# Altium schematic symbol library ITOG.schlib: 42 symbols
Pins are listed as number, name and electrical type; pins without a type are passive.

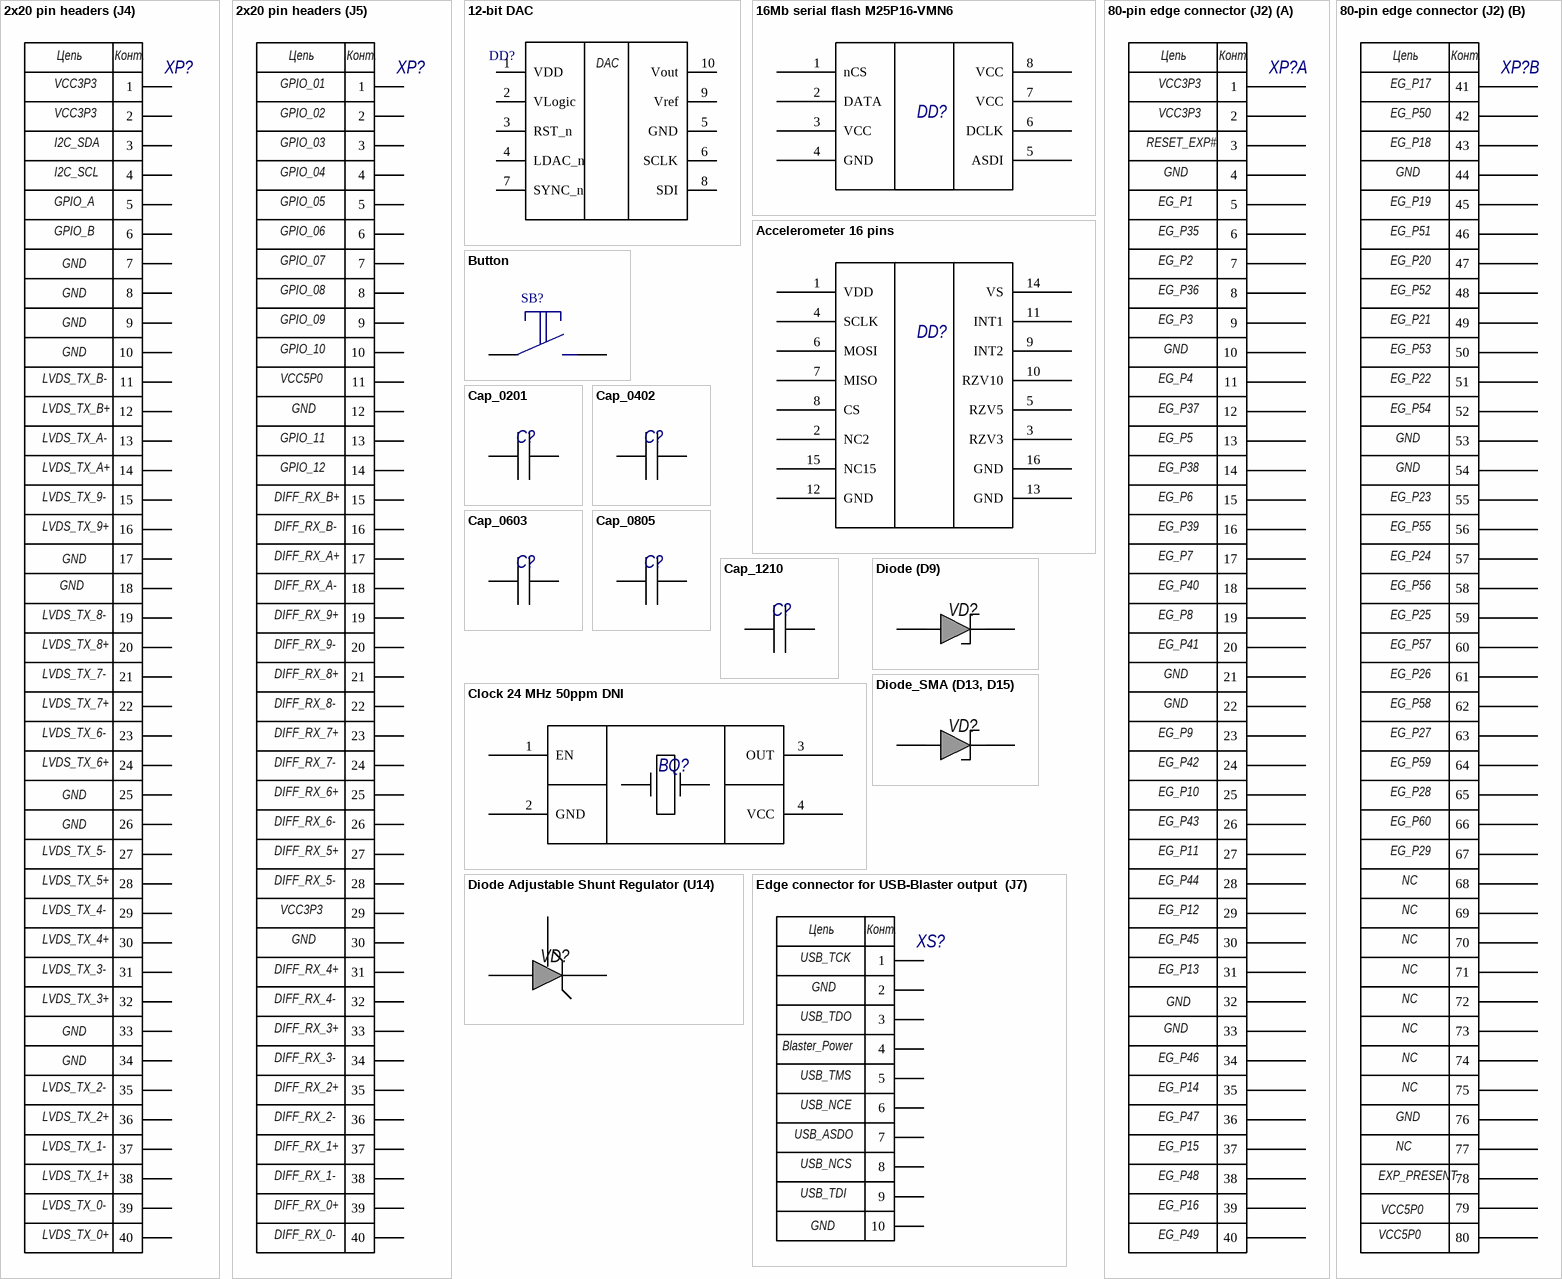
[diagram p0: symbols 2x20 pin headers (J4) to Edge connector for USB-Blaster output  (J7)]

## 2x20 pin headers (J4)
designator XP?
PIN_HEADER_2x20_2.54mm 2x 20 pin headers for expansion and loopback
footprint CONN_J4,J5_PIN_HEADER_2x20_2.54mm (PIN_HEADER_2x20_2.54mm)
pins: 1, 2, 3, 4, 5, 6, 7, 8, 9, 10, 11, 12, 13, 14, 15, 16, 17, 18, 19, 20, 21, 22, 23, 24, 25, 26, 27, 28, 29, 30, 31, 32, 33, 34, 35, 36, 37, 38, 39, 40
text: Цепь; Конт.; VCC3P3; I2C_SDA; I2C_SCL; GPIO_A; GPIO_B; GND; LVDS_TX_B-; LVDS_TX_B+; LVDS_TX_A-; LVDS_TX_A+; LVDS_TX_9-; LVDS_TX_9+; LVDS_TX_8-; LVDS_TX_8+; LVDS_TX_7-; LVDS_TX_7+; LVDS_TX_6-; LVDS_TX_6+; LVDS_TX_5-; LVDS_TX_5+; LVDS_TX_4-; LVDS_TX_4+; LVDS_TX_3-; LVDS_TX_3+; LVDS_TX_2-; LVDS_TX_2+; LVDS_TX_1-; LVDS_TX_1+; LVDS_TX_0-; LVDS_TX_0+

## 2x20 pin headers (J5)
designator XP?
PIN_HEADER_2x20_2.54mm 2x 20 pin headers for expansion and loopback
footprint CONN_J4,J5_PIN_HEADER_2x20_2.54mm (PIN_HEADER_2x20_2.54mm)
pins: 1, 2, 3, 4, 5, 6, 7, 8, 9, 10, 11, 12, 13, 14, 15, 16, 17, 18, 19, 20, 21, 22, 23, 24, 25, 26, 27, 28, 29, 30, 31, 32, 33, 34, 35, 36, 37, 38, 39, 40
text: Цепь; Конт.; GPIO_01; GPIO_02; GPIO_03; GPIO_04; GPIO_05; GPIO_06; GPIO_07; GPIO_08; GPIO_09; GPIO_10; VCC5P0; GND; GPIO_11; GPIO_12; DIFF_RX_B+; DIFF_RX_B-; DIFF_RX_A+; DIFF_RX_A-; DIFF_RX_9+; DIFF_RX_9-; DIFF_RX_8+; DIFF_RX_8-; DIFF_RX_7+; DIFF_RX_7-; DIFF_RX_6+; DIFF_RX_6-; DIFF_RX_5+; DIFF_RX_5-; VCC3P3; DIFF_RX_4+; DIFF_RX_4-; DIFF_RX_3+; DIFF_RX_3-; DIFF_RX_2+; DIFF_RX_2-; DIFF_RX_1+; DIFF_RX_1-; DIFF_RX_0+; DIFF_RX_0-

## 12-bit DAC
designator DD?
12-bit DAC AD5681R; Manufacturer: ADI; Name: AD5681RBRMZ-RL7
footprint AD5681R_12-bit DAC
pins: 1 VDD, 2 VLogic, 3 RST_n, 4 LDAC_n, 5 GND, 6 SCLK, 7 SYNC_n, 8 SDI, 9 Vref, 10 Vout
text: DAC

## 16Mb serial flash M25P16-VMN6
designator DD?
16Mb serial flash off-chip processor code storage, etc; Manufacturer: Micron; Name: M25P16-VMN6
footprint M25P16-VMN6 _serial_flash (SOIC, 8-Leads, Body 4,95x3,95mm, Pitch 1,27mm, IPC Medium Density)
pins: 1 nCS, 2 DATA, 3 VCC, 4 GND, 5 ASDI, 6 DCLK, 7 VCC, 8 VCC

## 80-pin edge connector (J2)
designator XP?
MEC6-140_CARD; Name: MEC6-140_CARD
footprint MEC6-140-02-S-DV-A (CONN EDGE DUAL FMALE 80POS 0.025)
part A pins: 1, 2, 3, 4, 5, 6, 7, 8, 9, 10, 11, 12, 13, 14, 15, 16, 17, 18, 19, 20, 21, 22, 23, 24, 25, 26, 27, 28, 29, 30, 31, 32, 33, 34, 35, 36, 37, 38, 39, 40
part B pins: 41, 42, 43, 44, 45, 46, 47, 48, 49, 50, 51, 52, 53, 54, 55, 56, 57, 58, 59, 60, 61, 62, 63, 64, 65, 66, 67, 68, 69, 70, 71, 72, 73, 74, 75, 76, 77, 78, 79, 80
part A text: Цепь; Конт.; VCC3P3; RESET_EXP#; GND; EG_P1; EG_P35; EG_P2; EG_P36; EG_P3; EG_P4; EG_P37; EG_P5; EG_P38; EG_P6; EG_P39; EG_P7; EG_P40; EG_P8; EG_P41; EG_P9; EG_P42; EG_P10; EG_P43; EG_P11; EG_P44; EG_P12; EG_P45; EG_P13; EG_P46; EG_P14; EG_P47; EG_P15; EG_P48; EG_P16; EG_P49
part B text: Цепь; Конт.; EG_P17; EG_P50; EG_P18; GND; EG_P19; EG_P51; EG_P20; EG_P52; EG_P21; EG_P53; EG_P22; EG_P54; EG_P23; EG_P55; EG_P24; EG_P56; EG_P25; EG_P57; EG_P26; EG_P58; EG_P27; EG_P59; EG_P28; EG_P60; EG_P29; NC; EXP_PRESENT; VCC5P0

## Accelerometer 16 pins
designator DD?
Accelerometer ADXL362  2.5 or 3.3V 3uA; Manufacturer: ADI; Name: ADXL362BCCZ-RL7 SMD 16 pins
footprint ADXL362_Accelerometer
pins: 1 VDD, 2 NC2, 3 RZV3, 4 SCLK, 5 RZV5, 6 MOSI, 7 MISO, 8 CS, 9 INT2, 10 RZV10, 11 INT1, 12 GND, 13 GND, 14 VS, 15 NC15, 16 GND, 17 hidden to GND

## Button
designator SB?
SPST Micro SMD PushButton; Name: Micro SMD PushButton 3.7x6.1x2.5mm 2P; Manufacturer: *
footprint Button_SMD (Micro SMD PushButton 3.7x6.1x2.5mm 2P)
pins: 1, 2

## Cap_0201
designator C?  (value not drawn)
Non-polar Capacitor; Value: *
footprint CAPC0603X03L (Chip Capacitor, 2-Leads, Body 0,60x0,30mm, IPC High Density)
pins: 1, 2

## Cap_0402
designator C?  (value not drawn)
Non-polar Capacitor; Value: *
footprint Cap_0402
pins: 1, 2

## Cap_0603
designator C?  (value not drawn)
Non-polar Capacitor; Value: *
footprint Cap_0603
pins: 1, 2

## Cap_0805
designator C?  (value not drawn)
Non-polar Capacitor; Value: *
footprint Cap_0805
pins: 1, 2

## Cap_1210
designator C?  (value not drawn)
Non-polar Capacitor; Value: *
footprint Cap_1210
pins: 1, 2

## Clock 24 MHz 50ppm DNI
designator BQ?
Clock 24 MHz  secondary clock   3.2x2.5 mm; Manufacturer: Silicon Labs; Name: 501HAA24M0000CAFR
footprint Crystal_Clock_SMD (Crystal Clock -40°C ~ 85°C Surface Mount 4-SMD, No Lead)
pins: 1 EN, 2 GND, 3 OUT, 4 VCC

## Diode (D9)
designator VD?  (value not drawn)
DIODE SCHOTTKY  BAT54C 30V 200mA SOT23; Manufacturer: Fairchild Semiconductor; Name: BAT54C
footprint Diode_BAT54C (SOT23, 3-Leads, Body 2,90x2,45mm, Pitch 0,95mm, IPC Medium Density)
pins: 1, 2

## Diode Adjustable Shunt Regulator (U14)
designator VD?, comment 0-Diode  (value not drawn)
SPX432 1.24V SOT-23; Manufacturer: Diodes Incorporated; Name: SPX432 1.24V SOT-23
footprint Diode_BAT54C (SOT23, 3-Leads, Body 2,90x2,45mm, Pitch 0,95mm, IPC Medium Density)
pins: 1 Ref, 2 Cathode, 3 Anode

## Diode_SMA (D13, D15)
designator VD?  (value not drawn)
DIODE SCHOTTKY B360A 60V 0,5mA SMA; Manufacturer: Diodes Incorporated; Name: B360A
footprint Diode_VS_SMA (SMA)
pins: 1, 2

## Edge connector for USB-Blaster output  (J7)
designator XS?
PIN_HEADER_2x5_2.54mm(DNI); Name: PIN_HEADER_2x5_2.54mm(DNI)
footprint CONN_J7_PIN_HEADER_2x5_2.54mm(DNI) (PIN_HEADER_2x5_2.54mm(DNI))
pins: 1, 2, 3, 4, 5, 6, 7, 8, 9, 10
text: Цепь; Конт.; USB_TCK; GND; USB_TDO; Blaster_Power; USB_TMS; USB_NCE; USB_ASDO; USB_NCS; USB_TDI

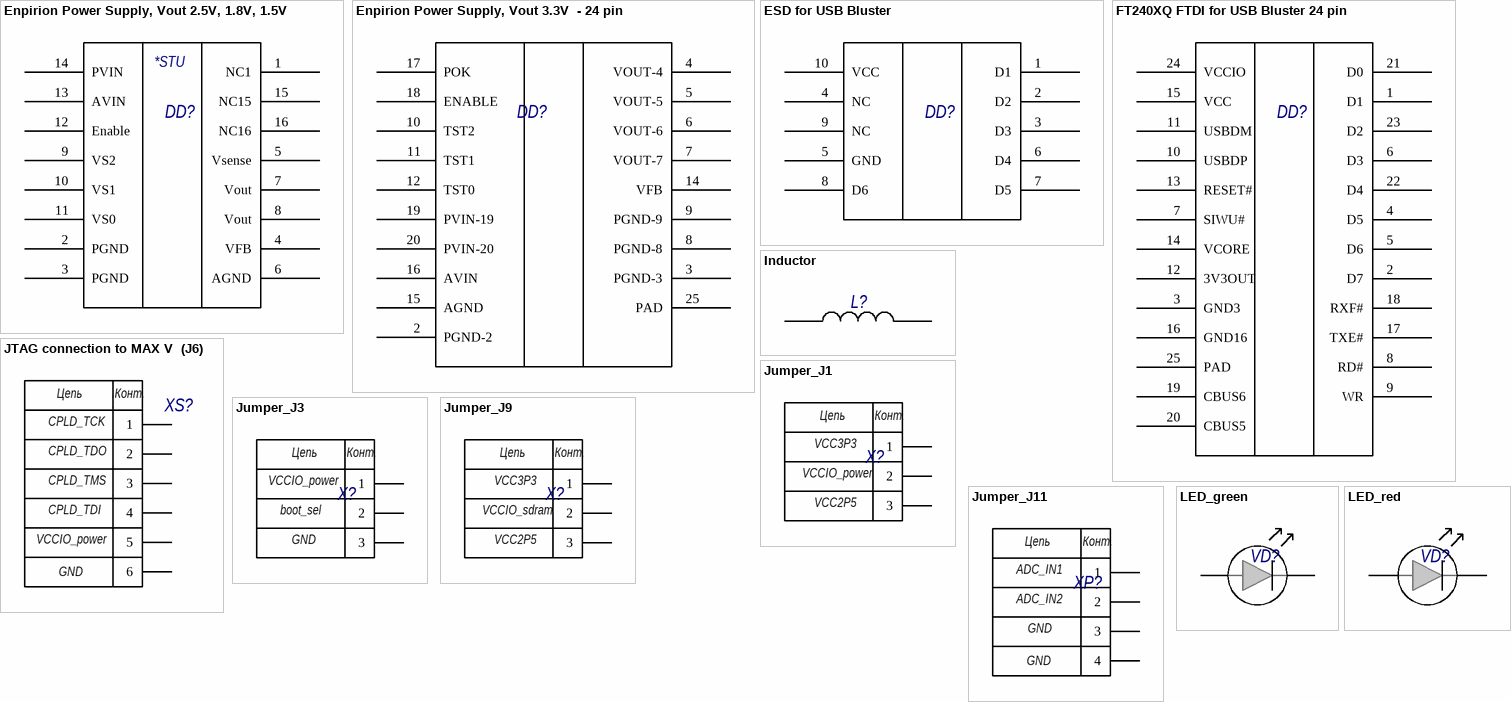
[diagram p1: symbols Enpirion Power Supply, Vout 2.5V, 1.8V, 1.5V to LED_red]

## Enpirion Power Supply, Vout 2.5V, 1.8V, 1.5V
designator DD?
EP53A8LQI 16-pin QFN T&R;  2.5, 1.8, 1.2; Manufacturer: ALTERA; Name: EP53A8LQI
footprint Enpirion Power Supply_Vout 2.5V, 1.8V, 1.5V_16pin
pins: 1 NC1, 2 PGND, 3 PGND, 4 VFB, 5 Vsense, 6 AGND, 7 Vout, 8 Vout, 9 VS2, 10 VS1, 11 VS0, 12 Enable, 13 AVIN, 14 PVIN, 15 NC15, 16 NC16, 17 hidden to GND
text: *STU

## Enpirion Power Supply, Vout 3.3V  - 24 pin
designator DD?
EN5329QI 24-pin (4 x 6 x 1.1mm) QFN T&R; 3.3; Manufacturer: ALTERA; Name: EN5329QI
footprint Enpirion Power Supply_Vout 3.3V _24pin
pins: 2 PGND-2, 3 PGND-3, 4 VOUT-4, 5 VOUT-5, 6 VOUT-6, 7 VOUT-7, 8 PGND-8, 9 PGND-9, 10 TST2, 11 TST1, 12 TST0, 14 VFB, 15 AGND, 16 AVIN, 17 POK, 18 ENABLE, 19 PVIN-19, 20 PVIN-20, 25 PAD

## ESD for USB Bluster
designator DD?
TPD6E001RSER, ESD QFN10-RSE; Manufacturer: Texas Instruments; Name: TPD6E001RSER
footprint ESD_TPD6E001RSER (QFN, 10-Leads, Body 2,00x1,50mm, Pitch 0,50mm, Thermal Pad 1,50x0,30mm, IPC Medium Density QFN10-RSE)
pins: 1 D1, 2 D2, 3 D3, 4 NC, 5 GND, 6 D4, 7 D5, 8 D6, 9 NC, 10 VCC

## FT240XQ FTDI for USB Bluster 24 pin
designator DD?
FT240XQ FTDI for USB Bluster; Name: FT240XQ-T; Manufacturer: FTDI
footprint FFTDI_240XQ-T
pins: 1 D1, 2 D7, 3 GND3, 4 D5, 5 D6, 6 D3, 7 SIWU#, 8 RD#, 9 WR, 10 USBDP, 11 USBDM, 12 3V3OUT, 13 RESET#, 14 VCORE, 15 VCC, 16 GND16, 17 TXE#, 18 RXF#, 19 CBUS6, 20 CBUS5, 21 D0, 22 D4, 23 D2, 24 VCCIO, 25 PAD

## Inductor
designator L?  (value not drawn)
Inductor  4.7uH/600mA; Manufacturer: Murata; Name: LQM18PN4R7MFR; Value: *
footprint Inductor (Chip Inductor, 2-Leads, Body 1,00x0,50mm, IPC High Density)
pins: 1, 2

## JTAG connection to MAX V  (J6)
designator XS?
PIN_HEADER_1x6_2.54mm(DNI); Name: PIN_HEADER_1x6_2.54mm(DNI)
footprint CONN_J6_PIN_HEADER_1x6_2.54mm(DNI) (PIN_HEADER_1x6_2.54mm(DNI))
pins: 1, 2, 3, 4, 5, 6
text: Цепь; Конт.; CPLD_TCK; CPLD_TDO; CPLD_TMS; CPLD_TDI; VCCIO_power; GND

## Jumper_J1
designator X?
Jumper 2.00mm pitch (default short PIN 1 and 2) 3.3V or 2.5V VCCIO selection  1x3_2.0mm
footprint CONN_J1,J9_PIN_HEADER_1x3_2.0mm (PIN_HEADER_1x3_2.0mm)
pins: 1, 2, 3
text: Цепь; Конт.; VCC3P3; VCCIO_power; VCC2P5

## Jumper_J3
designator X?
Jumper 2.54mm pitch (default short PIN 1 and 2) 1x3_2.54mm boot select
footprint CONN_J3_PIN_HEADER_1x3_2.54mm _bootselect (PIN_HEADER_1x3_2.54mm)
pins: 1, 2, 3
text: Цепь; Конт.; VCCIO_power; boot_sel; GND

## Jumper_J9
designator X?
Jumper 2.00mm pitch (default short PIN 1 and 2) 3.3V or 2.5V VCCIO selection 1x3_2.0mm
footprint CONN_J1,J9_PIN_HEADER_1x3_2.0mm (PIN_HEADER_1x3_2.0mm)
pins: 1, 2, 3
text: Цепь; Конт.; VCC3P3; VCCIO_sdram; VCC2P5

## Jumper_J11
designator XP?
Jumper Analog input (AIN1 and AIN2)  4 pin 2x2_2.54mm; Name: Jumper Analog input (AIN1 and AIN2)  4 pin 2x2_2.54mm
footprint CONN_J11-PIN_HEADER_2x2_2.54mm (Analog input (AIN1 and AIN2))
pins: 1, 2, 3, 4
text: Цепь; Конт.; ADC_IN1; ADC_IN2; GND

## LED_green
designator VD?
LED GREEN CLEAR 2.3V 30mA 8-bit output, two for status; Manufacturer: Bet Lux Electronics; Name: BL-LS0603GC SMD
footprint LED_smd
pins: 1, 2

## LED_red
designator VD?
LED RED CLEAR 2.2V 30mA Power led; Manufacturer: Bet Lux Electronics; Name: BL-LS0603HC SMD
footprint LED_smd
pins: 1, 2

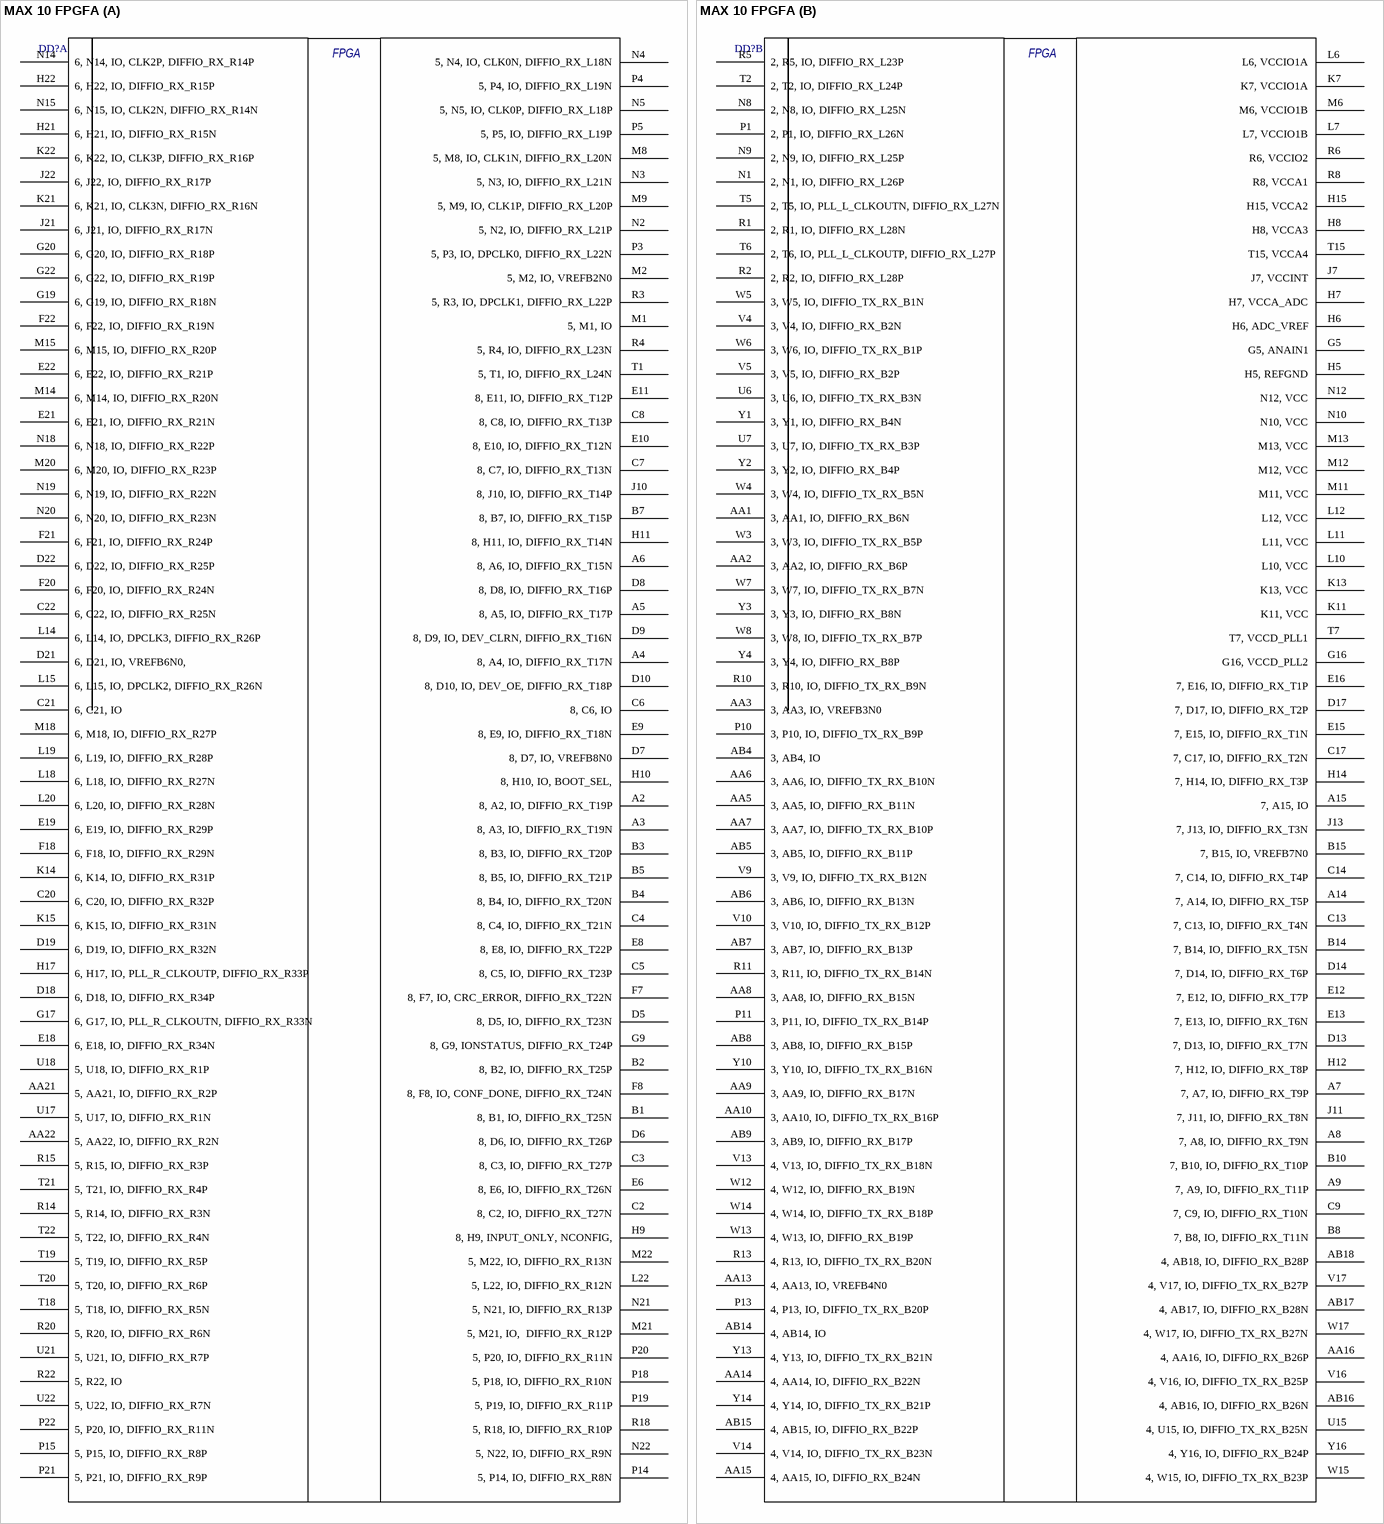
[diagram p2: symbol MAX 10 FPGFA]

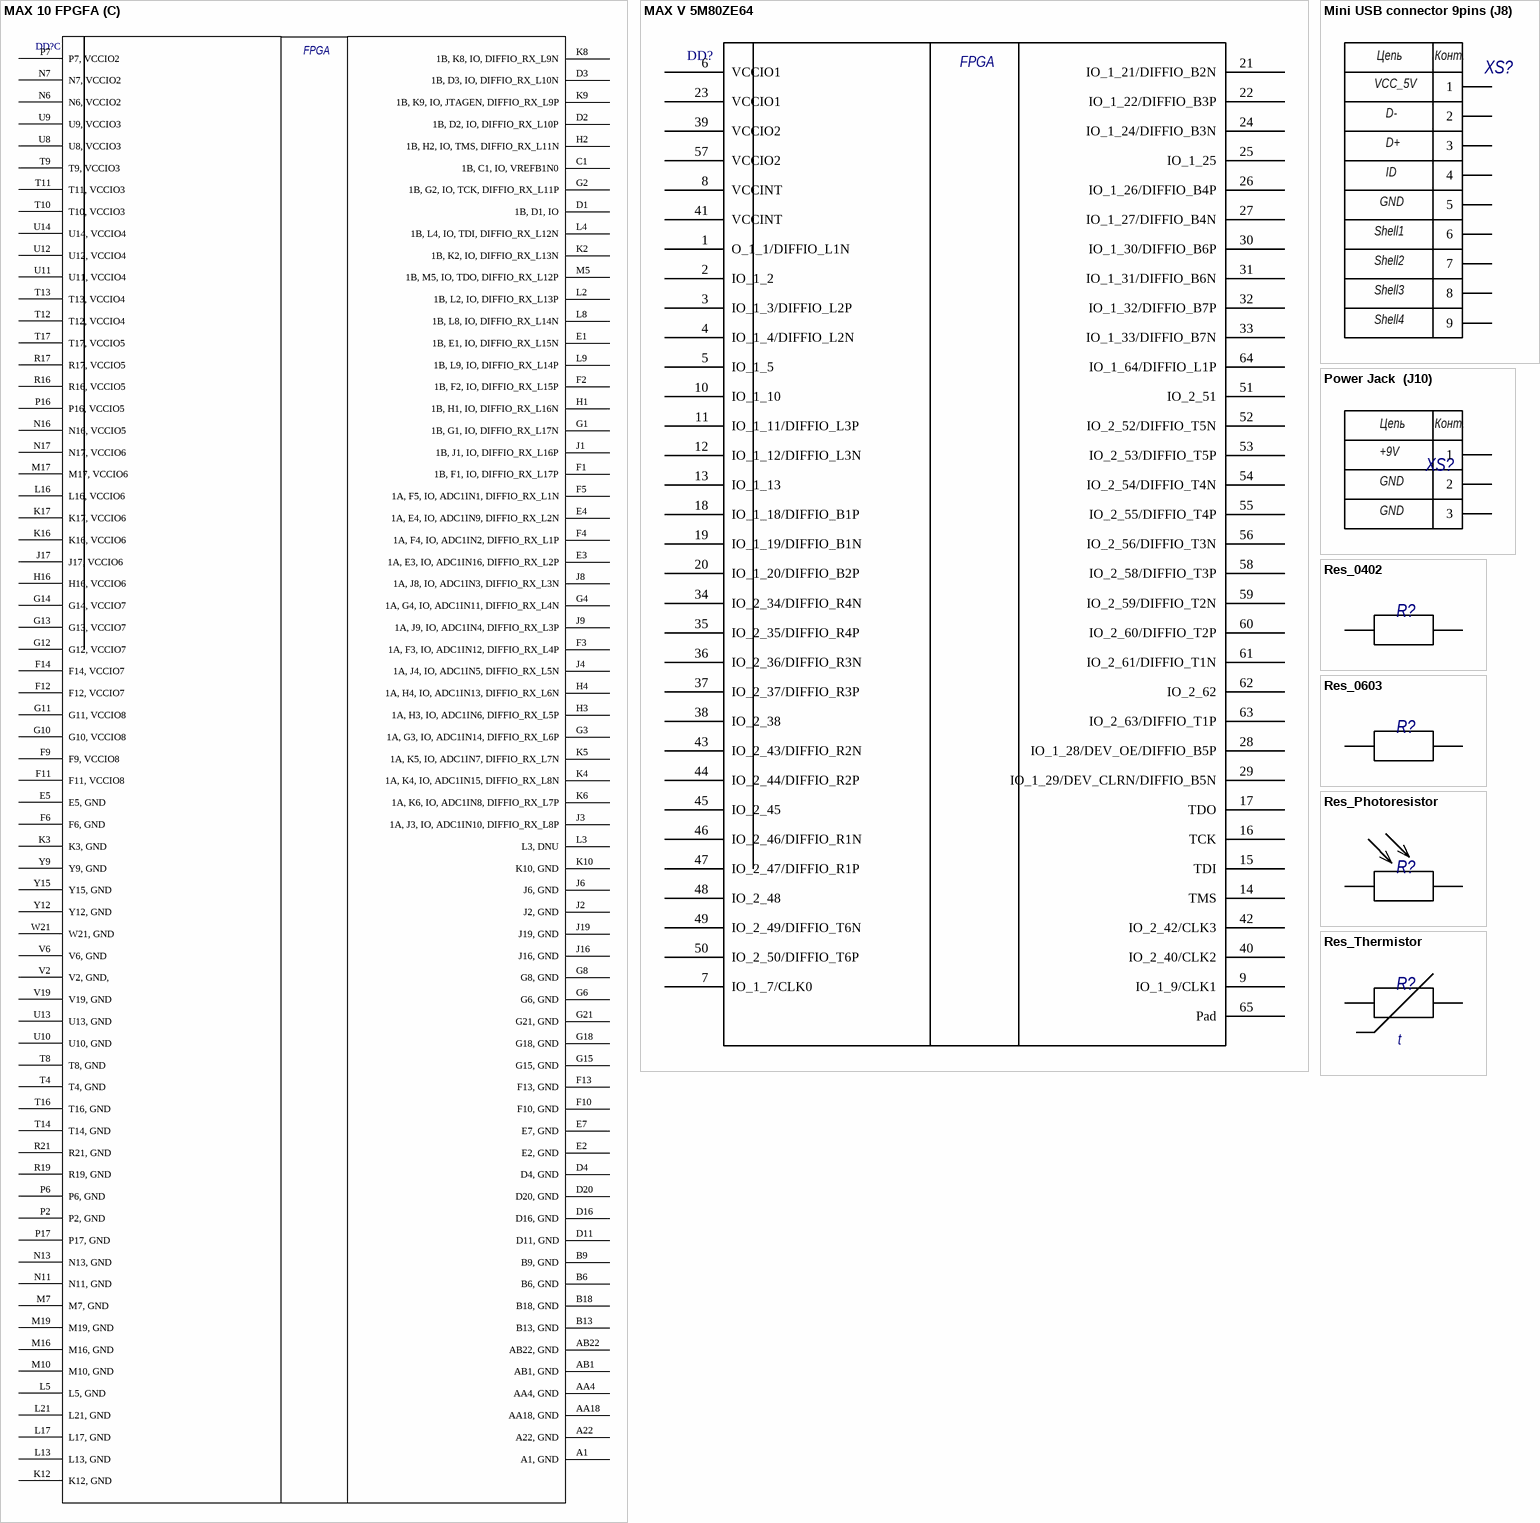
[diagram p3: symbols MAX 10 FPGFA to Res_Thermistor]

## MAX 10 FPGFA
designator DD?  (value not drawn)
MAX10 10M08DAF484; Manufacturer: ALTERA; Name: 10M08DAF484C8GES
footprint 10M08DAF484_V2 (MAX 10 FPGFA)
part A pins: A2 8, A2, IO, DIFFIO_RX_T19P, A3 8, A3, IO, DIFFIO_RX_T19N, A4 8, A4, IO, DIFFIO_RX_T17N, A5 8, A5, IO, DIFFIO_RX_T17P, A6 8, A6, IO, DIFFIO_RX_T15N, AA21 5, AA21, IO, DIFFIO_RX_R2P, AA22 5, AA22, IO, DIFFIO_RX_R2N, B1 8, B1, IO, DIFFIO_RX_T25N, B2 8, B2, IO, DIFFIO_RX_T25P, B3 8, B3, IO, DIFFIO_RX_T20P, B4 8, B4, IO, DIFFIO_RX_T20N, B5 8, B5, IO, DIFFIO_RX_T21P, B7 8, B7, IO, DIFFIO_RX_T15P, C2 8, C2, IO, DIFFIO_RX_T27N, C3 8, C3, IO, DIFFIO_RX_T27P, C4 8, C4, IO, DIFFIO_RX_T21N, C5 8, C5, IO, DIFFIO_RX_T23P, C6 8, C6, IO, C7 8, C7, IO, DIFFIO_RX_T13N, C8 8, C8, IO, DIFFIO_RX_T13P, C20 6, C20, IO, DIFFIO_RX_R32P, C21 6, C21, IO, C22 6, C22, IO, DIFFIO_RX_R25N, D5 8, D5, IO, DIFFIO_RX_T23N, D6 8, D6, IO, DIFFIO_RX_T26P, D7 8, D7, IO, VREFB8N0, D8 8, D8, IO, DIFFIO_RX_T16P, D9 8, D9, IO, DEV_CLRN, DIFFIO_RX_T16N, D10 8, D10, IO, DEV_OE, DIFFIO_RX_T18P, D18 6, D18, IO, DIFFIO_RX_R34P, D19 6, D19, IO, DIFFIO_RX_R32N, D21 6, D21, IO, VREFB6N0,, D22 6, D22, IO, DIFFIO_RX_R25P, E6 8, E6, IO, DIFFIO_RX_T26N, E8 8, E8, IO, DIFFIO_RX_T22P, E9 8, E9, IO, DIFFIO_RX_T18N, E10 8, E10, IO, DIFFIO_RX_T12N, E11 8, E11, IO, DIFFIO_RX_T12P, E18 6, E18, IO, DIFFIO_RX_R34N, E19 6, E19, IO, DIFFIO_RX_R29P, E21 6, E21, IO, DIFFIO_RX_R21N, E22 6, E22, IO, DIFFIO_RX_R21P, F7 8, F7, IO, CRC_ERROR, DIFFIO_RX_T22N, F8 8, F8, IO, CONF_DONE, DIFFIO_RX_T24N, F18 6, F18, IO, DIFFIO_RX_R29N, F20 6, F20, IO, DIFFIO_RX_R24N, F21 6, F21, IO, DIFFIO_RX_R24P, F22 6, F22, IO, DIFFIO_RX_R19N, G9 8, G9, IONSTATUS, DIFFIO_RX_T24P, G17 6, G17, IO, PLL_R_CLKOUTN, DIFFIO_RX_R33N, G19 6, G19, IO, DIFFIO_RX_R18N, G20 6, G20, IO, DIFFIO_RX_R18P, G22 6, G22, IO, DIFFIO_RX_R19P, H9 8, H9, INPUT_ONLY, NCONFIG,, H10 8, H10, IO, BOOT_SEL,, H11 8, H11, IO, DIFFIO_RX_T14N, H17 6, H17, IO, PLL_R_CLKOUTP, DIFFIO_RX_R33P, H21 6, H21, IO, DIFFIO_RX_R15N, H22 6, H22, IO, DIFFIO_RX_R15P, J10 8, J10, IO, DIFFIO_RX_T14P, J21 6, J21, IO, DIFFIO_RX_R17N, J22 6, J22, IO, DIFFIO_RX_R17P, K14 6, K14, IO, DIFFIO_RX_R31P, K15 6, K15, IO, DIFFIO_RX_R31N, K21 6, K21, IO, CLK3N, DIFFIO_RX_R16N, K22 6, K22, IO, CLK3P, DIFFIO_RX_R16P, L14 6, L14, IO, DPCLK3, DIFFIO_RX_R26P, L15 6, L15, IO, DPCLK2, DIFFIO_RX_R26N, L18 6, L18, IO, DIFFIO_RX_R27N, L19 6, L19, IO, DIFFIO_RX_R28P, L20 6, L20, IO, DIFFIO_RX_R28N, L22 5, L22, IO, DIFFIO_RX_R12N, M1 5, M1, IO, M2 5, M2, IO, VREFB2N0, M8 5, M8, IO, CLK1N, DIFFIO_RX_L20N, M9 5, M9, IO, CLK1P, DIFFIO_RX_L20P, M14 6, M14, IO, DIFFIO_RX_R20N, M15 6, M15, IO, DIFFIO_RX_R20P, M18 6, M18, IO, DIFFIO_RX_R27P, M20 6, M20, IO, DIFFIO_RX_R23P, M21 5, M21, IO,  DIFFIO_RX_R12P, M22 5, M22, IO, DIFFIO_RX_R13N, N2 5, N2, IO, DIFFIO_RX_L21P, N3 5, N3, IO, DIFFIO_RX_L21N, N4 5, N4, IO, CLK0N, DIFFIO_RX_L18N, N5 5, N5, IO, CLK0P, DIFFIO_RX_L18P, N14 6, N14, IO, CLK2P, DIFFIO_RX_R14P, N15 6, N15, IO, CLK2N, DIFFIO_RX_R14N, N18 6, N18, IO, DIFFIO_RX_R22P, N19 6, N19, IO, DIFFIO_RX_R22N, N20 6, N20, IO, DIFFIO_RX_R23N, N21 5, N21, IO, DIFFIO_RX_R13P, N22 5, N22, IO, DIFFIO_RX_R9N, P3 5, P3, IO, DPCLK0, DIFFIO_RX_L22N, P4 5, P4, IO, DIFFIO_RX_L19N, P5 5, P5, IO, DIFFIO_RX_L19P, P14 5, P14, IO, DIFFIO_RX_R8N, P15 5, P15, IO, DIFFIO_RX_R8P, P18 5, P18, IO, DIFFIO_RX_R10N, P19 5, P19, IO, DIFFIO_RX_R11P, P20 5, P20, IO, DIFFIO_RX_R11N, P21 5, P21, IO, DIFFIO_RX_R9P, P22 5, P20, IO, DIFFIO_RX_R11N, R3 5, R3, IO, DPCLK1, DIFFIO_RX_L22P, R4 5, R4, IO, DIFFIO_RX_L23N, R14 5, R14, IO, DIFFIO_RX_R3N, R15 5, R15, IO, DIFFIO_RX_R3P, R18 5, R18, IO, DIFFIO_RX_R10P, R20 5, R20, IO, DIFFIO_RX_R6N, R22 5, R22, IO, T1 5, T1, IO, DIFFIO_RX_L24N, T18 5, T18, IO, DIFFIO_RX_R5N, T19 5, T19, IO, DIFFIO_RX_R5P, T20 5, T20, IO, DIFFIO_RX_R6P, T21 5, T21, IO, DIFFIO_RX_R4P, T22 5, T22, IO, DIFFIO_RX_R4N, U17 5, U17, IO, DIFFIO_RX_R1N, U18 5, U18, IO, DIFFIO_RX_R1P, U21 5, U21, IO, DIFFIO_RX_R7P, U22 5, U22, IO, DIFFIO_RX_R7N
part B pins: A7 7, A7, IO, DIFFIO_RX_T9P, A8 7, A8, IO, DIFFIO_RX_T9N, A9 7, A9, IO, DIFFIO_RX_T11P, A14 7, A14, IO, DIFFIO_RX_T5P, A15 7, A15, IO, AA1 3, AA1, IO, DIFFIO_RX_B6N, AA2 3, AA2, IO, DIFFIO_RX_B6P, AA3 3, AA3, IO, VREFB3N0, AA5 3, AA5, IO, DIFFIO_RX_B11N, AA6 3, AA6, IO, DIFFIO_TX_RX_B10N, AA7 3, AA7, IO, DIFFIO_TX_RX_B10P, AA8 3, AA8, IO, DIFFIO_RX_B15N, AA9 3, AA9, IO, DIFFIO_RX_B17N, AA10 3, AA10, IO, DIFFIO_TX_RX_B16P, AA13 4, AA13, IO, VREFB4N0, AA14 4, AA14, IO, DIFFIO_RX_B22N, AA15 4, AA15, IO, DIFFIO_RX_B24N, AA16 4, AA16, IO, DIFFIO_RX_B26P, AB4 3, AB4, IO, AB5 3, AB5, IO, DIFFIO_RX_B11P, AB6 3, AB6, IO, DIFFIO_RX_B13N, AB7 3, AB7, IO, DIFFIO_RX_B13P, AB8 3, AB8, IO, DIFFIO_RX_B15P, AB9 3, AB9, IO, DIFFIO_RX_B17P, AB14 4, AB14, IO, AB15 4, AB15, IO, DIFFIO_RX_B22P, AB16 4, AB16, IO, DIFFIO_RX_B26N, AB17 4, AB17, IO, DIFFIO_RX_B28N, AB18 4, AB18, IO, DIFFIO_RX_B28P, B8 7, B8, IO, DIFFIO_RX_T11N, B10 7, B10, IO, DIFFIO_RX_T10P, B14 7, B14, IO, DIFFIO_RX_T5N, B15 7, B15, IO, VREFB7N0, C9 7, C9, IO, DIFFIO_RX_T10N, C13 7, C13, IO, DIFFIO_RX_T4N, C14 7, C14, IO, DIFFIO_RX_T4P, C17 7, C17, IO, DIFFIO_RX_T2N, D13 7, D13, IO, DIFFIO_RX_T7N, D14 7, D14, IO, DIFFIO_RX_T6P, D17 7, D17, IO, DIFFIO_RX_T2P, E12 7, E12, IO, DIFFIO_RX_T7P, E13 7, E13, IO, DIFFIO_RX_T6N, E15 7, E15, IO, DIFFIO_RX_T1N, E16 7, E16, IO, DIFFIO_RX_T1P, G5 G5, ANAIN1, G16 G16, VCCD_PLL2, H5 H5, REFGND, H6 H6, ADC_VREF, H7 H7, VCCA_ADC, H8 H8, VCCA3, H12 7, H12, IO, DIFFIO_RX_T8P, H14 7, H14, IO, DIFFIO_RX_T3P, H15 H15, VCCA2, J7 J7, VCCINT, J11 7, J11, IO, DIFFIO_RX_T8N, J13 7, J13, IO, DIFFIO_RX_T3N, K7 K7, VCCIO1A, K11 K11, VCC, K13 K13, VCC, L6 L6, VCCIO1A, L7 L7, VCCIO1B, L10 L10, VCC, L11 L11, VCC, L12 L12, VCC, M6 M6, VCCIO1B, M11 M11, VCC, M12 M12, VCC, M13 M13, VCC, N1 2, N1, IO, DIFFIO_RX_L26P, N8 2, N8, IO, DIFFIO_RX_L25N, N9 2, N9, IO, DIFFIO_RX_L25P, N10 N10, VCC, N12 N12, VCC, P1 2, P1, IO, DIFFIO_RX_L26N, P10 3, P10, IO, DIFFIO_TX_RX_B9P, P11 3, P11, IO, DIFFIO_TX_RX_B14P, P13 4, P13, IO, DIFFIO_TX_RX_B20P, R1 2, R1, IO, DIFFIO_RX_L28N, R2 2, R2, IO, DIFFIO_RX_L28P, R5 2, R5, IO, DIFFIO_RX_L23P, R6 R6, VCCIO2, R8 R8, VCCA1, R10 3, R10, IO, DIFFIO_TX_RX_B9N, R11 3, R11, IO, DIFFIO_TX_RX_B14N, R13 4, R13, IO, DIFFIO_TX_RX_B20N, T2 2, T2, IO, DIFFIO_RX_L24P, T5 2, T5, IO, PLL_L_CLKOUTN, DIFFIO_RX_L27N, T6 2, T6, IO, PLL_L_CLKOUTP, DIFFIO_RX_L27P, T7 T7, VCCD_PLL1, T15 T15, VCCA4, U6 3, U6, IO, DIFFIO_TX_RX_B3N, U7 3, U7, IO, DIFFIO_TX_RX_B3P, U15 4, U15, IO, DIFFIO_TX_RX_B25N, V4 3, V4, IO, DIFFIO_RX_B2N, V5 3, V5, IO, DIFFIO_RX_B2P, V9 3, V9, IO, DIFFIO_TX_RX_B12N, V10 3, V10, IO, DIFFIO_TX_RX_B12P, V13 4, V13, IO, DIFFIO_TX_RX_B18N, V14 4, V14, IO, DIFFIO_TX_RX_B23N, V16 4, V16, IO, DIFFIO_TX_RX_B25P, V17 4, V17, IO, DIFFIO_TX_RX_B27P, W3 3, W3, IO, DIFFIO_TX_RX_B5P, W4 3, W4, IO, DIFFIO_TX_RX_B5N, W5 3, W5, IO, DIFFIO_TX_RX_B1N, W6 3, W6, IO, DIFFIO_TX_RX_B1P, W7 3, W7, IO, DIFFIO_TX_RX_B7N, W8 3, W8, IO, DIFFIO_TX_RX_B7P, W12 4, W12, IO, DIFFIO_RX_B19N, W13 4, W13, IO, DIFFIO_RX_B19P, W14 4, W14, IO, DIFFIO_TX_RX_B18P, W15 4, W15, IO, DIFFIO_TX_RX_B23P, W17 4, W17, IO, DIFFIO_TX_RX_B27N, Y1 3, Y1, IO, DIFFIO_RX_B4N, Y2 3, Y2, IO, DIFFIO_RX_B4P, Y3 3, Y3, IO, DIFFIO_RX_B8N, Y4 3, Y4, IO, DIFFIO_RX_B8P, Y10 3, Y10, IO, DIFFIO_TX_RX_B16N, Y13 4, Y13, IO, DIFFIO_TX_RX_B21N, Y14 4, Y14, IO, DIFFIO_TX_RX_B21P, Y16 4, Y16, IO, DIFFIO_RX_B24P
part C pins: A1 A1, GND, A22 A22, GND, AA4 AA4, GND, AA18 AA18, GND, AB1 AB1, GND, AB22 AB22, GND, B6 B6, GND, B9 B9, GND, B13 B13, GND, B18 B18, GND, C1 1B, C1, IO, VREFB1N0, D1 1B, D1, IO, D2 1B, D2, IO, DIFFIO_RX_L10P, D3 1B, D3, IO, DIFFIO_RX_L10N, D4 D4, GND, D11 D11, GND, D16 D16, GND, D20 D20, GND, E1 1B, E1, IO, DIFFIO_RX_L15N, E2 E2, GND, E3 1A, E3, IO, ADC1IN16, DIFFIO_RX_L2P, E4 1A, E4, IO, ADC1IN9, DIFFIO_RX_L2N, E5 E5, GND, E7 E7, GND, F1 1B, F1, IO, DIFFIO_RX_L17P, F2 1B, F2, IO, DIFFIO_RX_L15P, F3 1A, F3, IO, ADC1IN12, DIFFIO_RX_L4P, F4 1A, F4, IO, ADC1IN2, DIFFIO_RX_L1P, F5 1A, F5, IO, ADC1IN1, DIFFIO_RX_L1N, F6 F6, GND, F9 F9, VCCIO8, F10 F10, GND, F11 F11, VCCIO8, F12 F12, VCCIO7, F13 F13, GND, F14 F14, VCCIO7, G1 1B, G1, IO, DIFFIO_RX_L17N, G2 1B, G2, IO, TCK, DIFFIO_RX_L11P, G3 1A, G3, IO, ADC1IN14, DIFFIO_RX_L6P, G4 1A, G4, IO, ADC1IN11, DIFFIO_RX_L4N, G6 G6, GND, G8 G8, GND, G10 G10, VCCIO8, G11 G11, VCCIO8, G12 G12, VCCIO7, G13 G13, VCCIO7, G14 G14, VCCIO7, G15 G15, GND, G18 G18, GND, G21 G21, GND, H1 1B, H1, IO, DIFFIO_RX_L16N, H2 1B, H2, IO, TMS, DIFFIO_RX_L11N, H3 1A, H3, IO, ADC1IN6, DIFFIO_RX_L5P, H4 1A, H4, IO, ADC1IN13, DIFFIO_RX_L6N, H16 H16, VCCIO6, J1 1B, J1, IO, DIFFIO_RX_L16P, J2 J2, GND, J3 1A, J3, IO, ADC1IN10, DIFFIO_RX_L8P, J4 1A, J4, IO, ADC1IN5, DIFFIO_RX_L5N, J6 J6, GND, J8 1A, J8, IO, ADC1IN3, DIFFIO_RX_L3N, J9 1A, J9, IO, ADC1IN4, DIFFIO_RX_L3P, J16 J16, GND, J17 J17, VCCIO6, J19 J19, GND, K2 1B, K2, IO, DIFFIO_RX_L13N, K3 K3, GND, K4 1A, K4, IO, ADC1IN15, DIFFIO_RX_L8N, K5 1A, K5, IO, ADC1IN7, DIFFIO_RX_L7N, K6 1A, K6, IO, ADC1IN8, DIFFIO_RX_L7P, K8 1B, K8, IO, DIFFIO_RX_L9N, K9 1B, K9, IO, JTAGEN, DIFFIO_RX_L9P, K10 K10, GND, K12 K12, GND, K16 K16, VCCIO6, K17 K17, VCCIO6, L2 1B, L2, IO, DIFFIO_RX_L13P, L3 L3, DNU, L4 1B, L4, IO, TDI, DIFFIO_RX_L12N, L5 L5, GND, L8 1B, L8, IO, DIFFIO_RX_L14N, L9 1B, L9, IO, DIFFIO_RX_L14P, L13 L13, GND, L16 L16, VCCIO6, L17 L17, GND, L21 L21, GND, M5 1B, M5, IO, TDO, DIFFIO_RX_L12P, M7 M7, GND, M10 M10, GND, M16 M16, GND, M17 M17, VCCIO6, M19 M19, GND, N6 N6, VCCIO2, N7 N7, VCCIO2, N11 N11, GND, N13 N13, GND, N16 N16, VCCIO5, N17 N17, VCCIO6, P2 P2, GND, P6 P6, GND, P7 P7, VCCIO2, P16 P16, VCCIO5, P17 P17, GND, R16 R16, VCCIO5, R17 R17, VCCIO5, R19 R19, GND, R21 R21, GND, T4 T4, GND, T8 T8, GND, T9 T9, VCCIO3, T10 T10, VCCIO3, T11 T11, VCCIO3, T12 T12, VCCIO4, T13 T13, VCCIO4, T14 T14, GND, T16 T16, GND, T17 T17, VCCIO5, U8 U8, VCCIO3, U9 U9, VCCIO3, U10 U10, GND, U11 U11, VCCIO4, U12 U12, VCCIO4, U13 U13, GND, U14 U14, VCCIO4, V2 V2, GND,, V6 V6, GND, V19 V19, GND, W21 W21, GND, Y9 Y9, GND, Y12 Y12, GND, Y15 Y15, GND
part A text: FPGA
part B text: FPGA
part C text: FPGA

## MAX V 5M80ZE64
designator DD?  (value not drawn)
required for USB Blaster  SQFP7x7-64-EXP; Manufacturer: ALTERA; Name: 5M80ZE64C5N
footprint MAX V 5M80ZE64 (TSQFP, 64-Leads, Body 7,00x7,00mm, Pitch 0,40mm, IPC Medium Density)
pins: 1 O_1_1/DIFFIO_L1N, 2 IO_1_2, 3 IO_1_3/DIFFIO_L2P, 4 IO_1_4/DIFFIO_L2N, 5 IO_1_5, 6 VCCIO1, 7 IO_1_7/CLK0, 8 VCCINT, 9 IO_1_9/CLK1, 10 IO_1_10, 11 IO_1_11/DIFFIO_L3P, 12 IO_1_12/DIFFIO_L3N, 13 IO_1_13, 14 TMS, 15 TDI, 16 TCK, 17 TDO, 18 IO_1_18/DIFFIO_B1P, 19 IO_1_19/DIFFIO_B1N, 20 IO_1_20/DIFFIO_B2P, 21 IO_1_21/DIFFIO_B2N, 22 IO_1_22/DIFFIO_B3P, 23 VCCIO1, 24 IO_1_24/DIFFIO_B3N, 25 IO_1_25, 26 IO_1_26/DIFFIO_B4P, 27 IO_1_27/DIFFIO_B4N, 28 IO_1_28/DEV_OE/DIFFIO_B5P, 29 IO_1_29/DEV_CLRN/DIFFIO_B5N, 30 IO_1_30/DIFFIO_B6P, 31 IO_1_31/DIFFIO_B6N, 32 IO_1_32/DIFFIO_B7P, 33 IO_1_33/DIFFIO_B7N, 34 IO_2_34/DIFFIO_R4N, 35 IO_2_35/DIFFIO_R4P, 36 IO_2_36/DIFFIO_R3N, 37 IO_2_37/DIFFIO_R3P, 38 IO_2_38, 39 VCCIO2, 40 IO_2_40/CLK2, 41 VCCINT, 42 IO_2_42/CLK3, 43 IO_2_43/DIFFIO_R2N, 44 IO_2_44/DIFFIO_R2P, 45 IO_2_45, 46 IO_2_46/DIFFIO_R1N, 47 IO_2_47/DIFFIO_R1P, 48 IO_2_48, 49 IO_2_49/DIFFIO_T6N, 50 IO_2_50/DIFFIO_T6P, 51 IO_2_51, 52 IO_2_52/DIFFIO_T5N, 53 IO_2_53/DIFFIO_T5P, 54 IO_2_54/DIFFIO_T4N, 55 IO_2_55/DIFFIO_T4P, 56 IO_2_56/DIFFIO_T3N, 57 VCCIO2, 58 IO_2_58/DIFFIO_T3P, 59 IO_2_59/DIFFIO_T2N, 60 IO_2_60/DIFFIO_T2P, 61 IO_2_61/DIFFIO_T1N, 62 IO_2_62, 63 IO_2_63/DIFFIO_T1P, 64 IO_1_64/DIFFIO_L1P, 65 Pad
text: FPGA

## Mini USB connector 9pins (J8)
designator XS?
USB-Blaster connector; Name: Mini USB connector
footprint CONN_MiniUSB
pins: 1, 2, 3, 4, 5, 6, 7, 8, 9
text: Цепь; Конт.; VCC_5V; D-; D+; ID; GND; Shell1; Shell2; Shell3; Shell4

## Power Jack  (J10)
designator XS?
Power Jack, 4.5mm_1.3mm
footprint CONN_Power_Jack (3.50mm (0.141", 1/8", Mini Plug) - Headphone Phone Jack Stereo Connector Solder)
pins: 1, 2, 3
text: Цепь; Конт.; +9V; GND

## Res_0402
designator R?  (value not drawn)
Resistor; Value: *
footprint RESISTOR_0402
pins: 1, 2

## Res_0603
designator R?  (value not drawn)
Resistor; Value: *
footprint Resistor_0603
pins: 1, 2

## Res_Photoresistor
designator R?  (value not drawn)
CDS Photo Resistor PGM5526  Light sensor; Manufacturer: Token; Value: *; Name: PGM5526
footprint Light Sensor (Photo Resistor PGM5526)
pins: 1, 2

## Res_Thermistor
designator R?  (value not drawn)
Resistor; Value: *
footprint Thermistor
pins: 1, 2
text: t

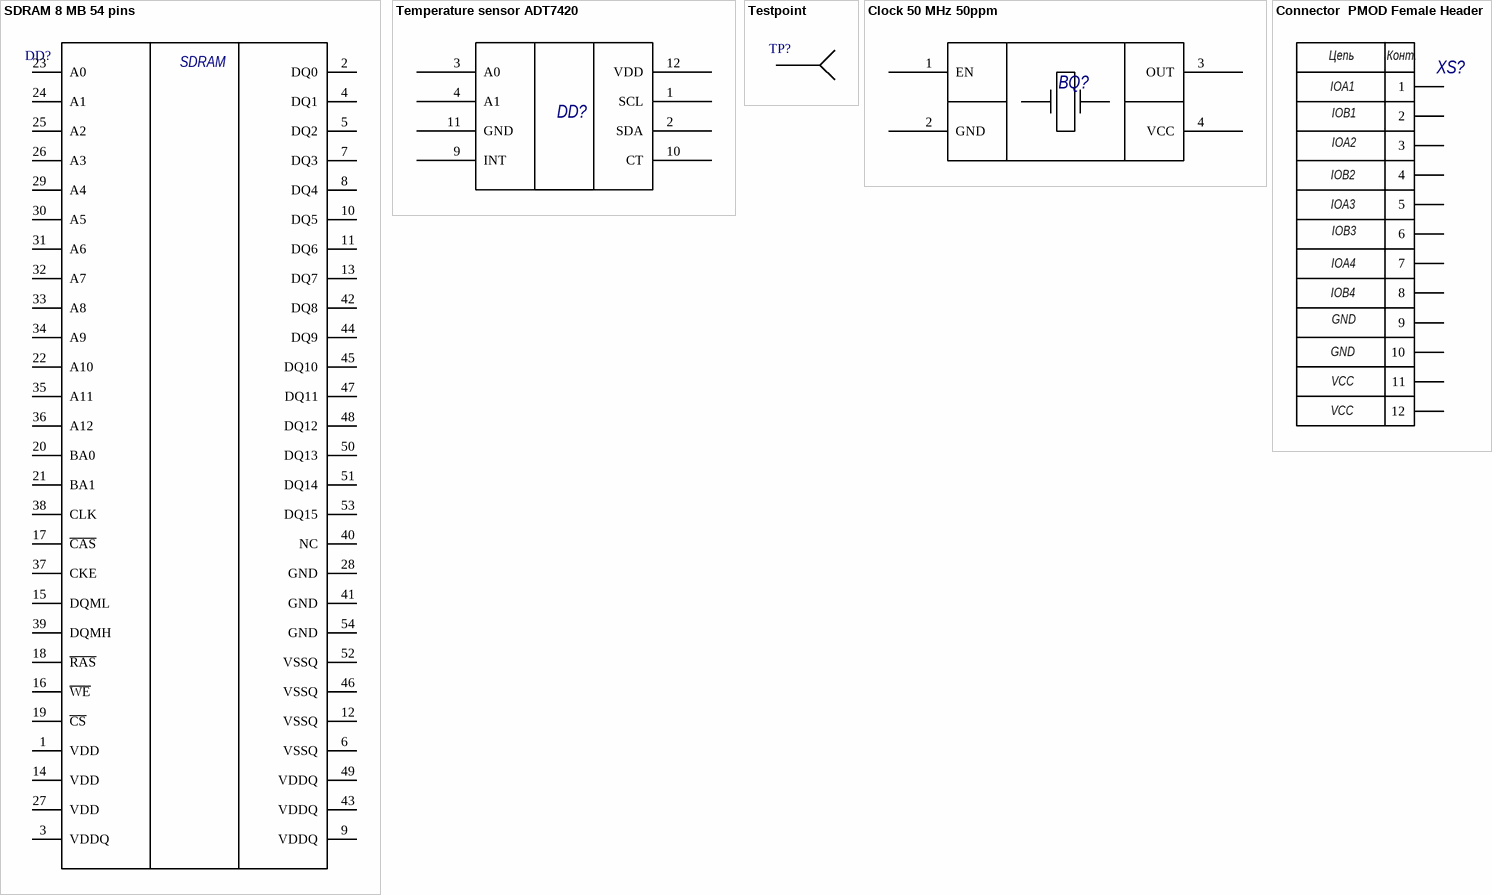
[diagram p4: symbols SDRAM 8 MB 54 pins to Сonnector  PMOD Female Header]

## SDRAM 8 MB 54 pins
designator DD?
SDRAM 8 MB 3.3V 90mA; Manufacturer: ISSI; Name: IS42S16400J-7TL  TSOPII 4 pins
footprint SDRAM_IS42S16400J-7TL (TSOP, 54-Leads, Body 22,22x10,16mm, Pitch 0,80mm, IPC Medium Density)
pins: 1 VDD, 2 DQ0, 3 VDDQ, 4 DQ1, 5 DQ2, 6 VSSQ, 7 DQ3, 8 DQ4, 9 VDDQ, 10 DQ5, 11 DQ6, 12 VSSQ, 13 DQ7, 14 VDD, 15 DQML, 16 ~{WE}, 17 ~{CAS}, 18 ~{RAS}, 19 ~{CS}, 20 BA0, 21 BA1, 22 A10, 23 A0, 24 A1, 25 A2, 26 A3, 27 VDD, 28 GND, 29 A4, 30 A5, 31 A6, 32 A7, 33 A8, 34 A9, 35 A11, 36 A12, 37 CKE, 38 CLK, 39 DQMH, 40 NC, 41 GND, 42 DQ8, 43 VDDQ, 44 DQ9, 45 DQ10, 46 VSSQ, 47 DQ11, 48 DQ12, 49 VDDQ, 50 DQ13, 51 DQ14, 52 VSSQ, 53 DQ15, 54 GND
text: SDRAM

## Temperature sensor ADT7420
designator DD?
ADT7420 16-lead LFCSP_WQ; Manufacturer: ADI; Name: ADT7420UCPZ-RL7
footprint ADT7420_temperature sensor
pins: 1 SCL, 2 SDA, 3 A0, 4 A1, 9 INT, 10 CT, 11 GND, 12 VDD, 17 hidden to GND

## Testpoint
designator TP?  (value not drawn)  (no BOM)
Standard Testing Point
footprint TP (Test_Point)
pins: 1 Pad

## Сlock 50 MHz 50ppm
designator BQ?
Clock 50 MHZ  main clock for FPGA  3.2x2.5 mm 3.3V 6.5mA; Manufacturer: Silicon Labs; Name: 501HAA50M0000CAFR
footprint Crystal_Clock_SMD (Crystal Clock -40°C ~ 85°C Surface Mount 4-SMD, No Lead)
pins: 1 EN, 2 GND, 3 OUT, 4 VCC

## Сonnector  PMOD Female Header
designator XS?
PMOD Female 2x6, 2.54 mm, DIP; Manufacturer: TE Connectivity AMP Connectors; Name: PMOD Connectors
footprint CONN_U5, U6_Female Header 2x6, 2.54mm (Female Header 2x6, 2.54mm)
pins: 1, 2, 3, 4, 5, 6, 7, 8, 9, 10, 11, 12
text: Цепь; Конт.; IOA1; IOB1; IOA2; IOB2; IOA3; IOB3; IOA4; IOB4; GND; VCC